# EAGLE library part 76608 (library trafo-murata)
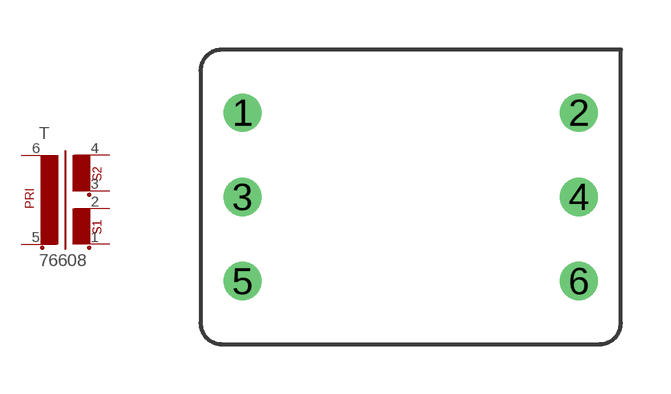
[diagram p3: symbol with the pads of 766-6; footprint 766-6]

Designator prefix T

## 76608  [766-6]
1  S11  pas
2  S12  pas
3  S21  pas
4  S22  pas
5  P1  pas
6  P2  pas

## Footprint 766-6 (pad centres in mm)
drill 0.65 round: 1 -5.08,2.54; 2 5.08,2.54; 3 -5.08,0; 4 5.08,0; 5 -5.08,-2.54; 6 5.08,-2.54